# Altium footprint library motor21.PcbLib: 21 footprints (part 1 of 2)
Each footprint in its own frame and in the unit in brackets; x right, y up, seen from the top. Pads: shape width x height; smd on the part's side, far side on the other; paste and mask are expansions set on the pad; w line width, h text height; cw(c..) or ccw(c..) is an arc to the next point about the centre after c.
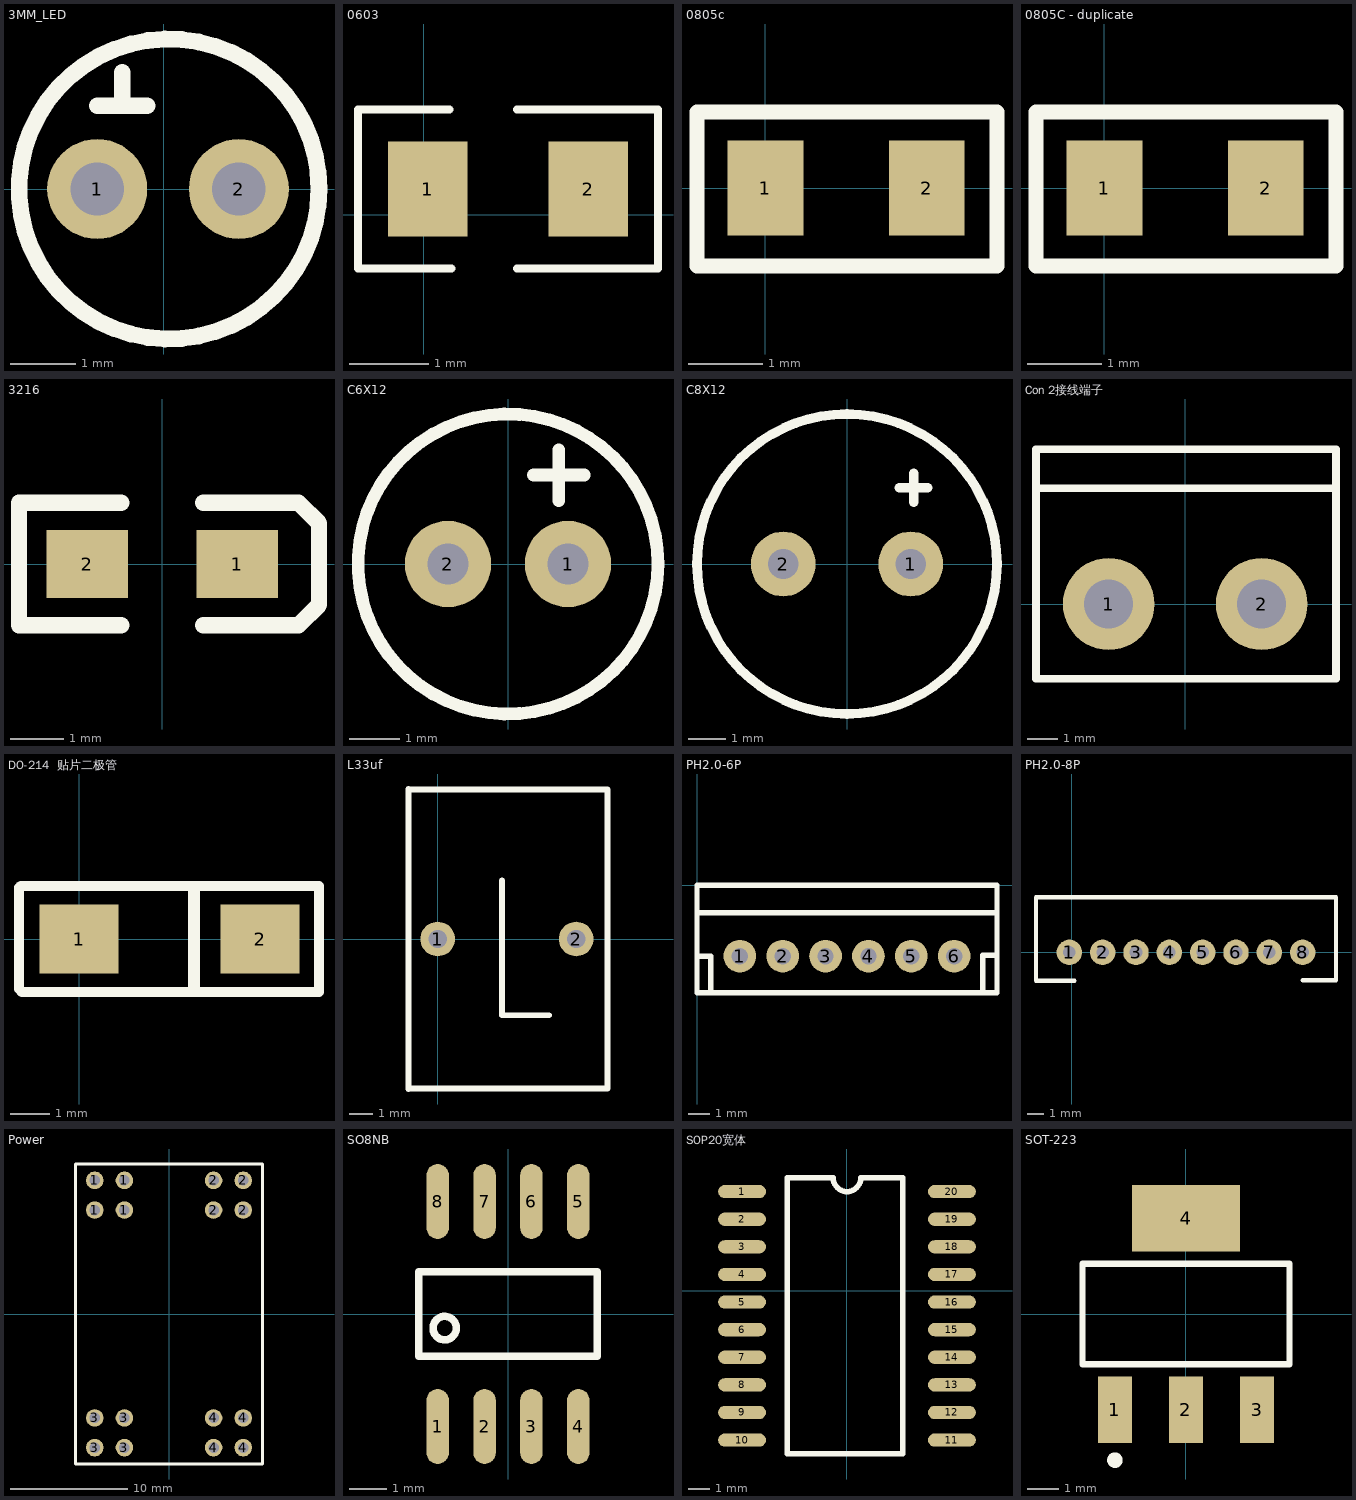
[diagram p0: the footprints below, top view; thin cyan lines are the x and y axes]

## 3MM_LED [mil]
pads (2):
  round 60 hole 32: 1(-40,0) 2(45,0)
Top Overlay:
  circle w10: c3.07,0 r90
  lines w10: -40,50 -10,50 ; -25,50 -25,70

## 0603 [mm]
pads (2):
  rect 1x1.2 smd: 1(0.05,0.325) 2(2.075,0.325)
Top Overlay:
  lines w0.1: 0.325,1.325 -0.825,1.325 -0.825,-0.675 0.35,-0.675 ; 1.175,-0.675 2.95,-0.675 2.95,1.325 1.175,1.325
3D body: height 0.45, standoff 0, extent -0.05,-0.075 1.55,0.725

## 0805c [mil]
height 39.37
pads (2):
  rect 40x50 smd: 1(0,0) 2(85,0)
Top Overlay:
  lines w8: -36,-41 122,-41 122,40 -36,40 -36,-41
3D body: height 30.39, standoff -0.39, extent 3.15,-24.61 81.89,24.61

## 0805C - duplicate [mil]
pads (2):
  rect 40x50 smd: 1(0,0) 2(85,0)
Top Overlay:
  lines w8: -36,-41 122,-41 122,40 -36,40 -36,-41
3D body: height 30.39, standoff -0.39, extent 3.15,-24.61 81.89,24.61

## 3216 [mil]
height 93.7
pads (2):
  rect 60x50 smd: 1(55,0) 2(-55,0)
Top Overlay:
  lines w12: -30,-45 -105,-45 -105,45 -30,45 ; 30,-45 100,-45 115,-30 115,30 100,45 30,45
3D body: height 62.99, standoff 0, extent -62.98,-31.5 63,31.5

## C6X12 [mil]
pads (2):
  round 68 hole 32: 1(47.24,0) 2(-47.24,0)
Top Overlay:
  circle w10: c0,0 r118.11
  lines w10: 20,70 60,70 ; 40,50 40,90

## C8X12 [mil]
pads (2):
  round 68 hole 32: 1(66.93,0) 2(-66.93,0)
Top Overlay:
  circle w10: c0,0 r157.48
  lines w10: 55,80 85,80 ; 70,65 70,95

## Con 2接线端子 [mm]
pads (2):
  round 3 hole 1.6: 1(-2.5,0) 2(2.5,0)
Top Overlay:
  lines w0.254: -4.877,3.785 4.902,3.785 4.928,3.81 ; -4.877,-2.438 4.928,-2.438 4.928,5.055 -4.877,5.055 -4.877,-2.438

## DO-214  贴片二极管 [mm]
height 2.7
pads (2):
  rect 2x1.75 smd: 1(0,0) 2(4.6,0)
Top Overlay:
  lines w0.254: -1.524,-1.27 -1.444,-1.35 -0.4,-1.35 6.096,-1.35 6.096,1.35 -0.4,1.35 -1.477,1.35 -1.524,1.303 -1.524,-1.27
  lines w0.3: 2.92,-1.3 2.92,1.3
3D body: height 2.12, standoff -0.02, extent -0.198,-1.342 4.908,1.325

## L33uf [mm]
pads (2):
  round 1.5 hole 0.8: 1(0,0) 2(6,0)
Top Overlay:
  lines w0.254: -1.27,-6.5 -1.27,6.5 ; -1.27,-6.477 7.366,-6.477 7.366,6.477 -1.27,6.477 ; 2.794,2.54 2.794,-3.302 4.826,-3.302

## PH2.0-6P [mil]
height 93.7
pads (6):
  round 60 hole 30: 1(78.74,-129.92) 2(157.48,-129.92) 3(236.22,-129.92) 4(314.96,-129.92) 5(393.7,-129.92) 6(472.44,-129.92)
Top Overlay:
  lines w10: 0,-130 25,-130 25,-196.85 ; 0,-50 551.18,-50 ; 525,-195 525,-128.07 549.25,-128.07 ; 550,-196.85 551.18,-195.67 551.18,0 0,0 0,-196.85 551.18,-196.85

## PH2.0-8P [mil]
height 93.7
pads (8):
  round 60 hole 30: 1(-6.26,0.08) 2(72.48,0.08) 3(151.22,0.08) 4(229.96,0.08) 5(308.7,0.08) 6(387.44,0.08) 7(466.18,0.08) 8(544.92,0.08)
Top Overlay:
  lines w10: 6.26,-66.85 -85,-66.85 -85,130 623.66,130 623.66,-65.67 544.92,-65.67

## Power [mm]
height 2.38
pads (16):
  round 1.5 hole 0.9: 1(-6.35,8.89) 1(-6.35,11.43) 1(-3.81,8.89) 1(-3.81,11.43) 2(3.81,8.89) 2(3.81,11.43) 2(6.35,8.89) 2(6.35,11.43) 3(-6.35,-11.43) 3(-6.35,-8.89) 3(-3.81,-11.43) 3(-3.81,-8.89) 4(3.81,-11.43) 4(3.81,-8.89) 4(6.35,-11.43) 4(6.35,-8.89)
Top Overlay:
  lines w0.254: -8,-12.827 -8,12.827 8,12.827 8,-12.827 -8,-12.827

## SO8NB [mil]
pads (8):
  oval 24x80 smd: 1(-75,-120) 2(-25,-120) 3(25,-120) 4(75,-120) 5(75,120) 6(25,120) 7(-25,120) 8(-75,120)
Top Overlay:
  circle w8: c-67.5,-15 r12.5
  lines w8: -95,-45 -95,45 95,45 95,-45 -95,-45
3D body: height 61.02, standoff -1.97, extent -96.91,-117.91 96,117.91

## SOP20宽体 [mm]
pads (20):
  oval 2.2x0.61 smd: 1(-4.825,4.563) 2(-4.825,3.293) 3(-4.825,2.023) 4(-4.825,0.753) 5(-4.825,-0.517) 6(-4.825,-1.787) 7(-4.825,-3.057) 8(-4.825,-4.327) 9(-4.825,-5.597) 10(-4.825,-6.867) 11(4.827,-6.867) 12(4.827,-5.597) 13(4.827,-4.327) 14(4.827,-3.057) 15(4.827,-1.787) 16(4.827,-0.517) 17(4.827,0.753) 18(4.827,2.023) 19(4.827,3.293) 20(4.827,4.563)
Top Overlay:
  lines w0.254: -2.743,-7.502 2.565,-7.502 2.565,5.198 0.636,5.198 cw(c0.001,5.198) -0.634,5.198 -2.743,5.198 -2.743,-7.502
3D body: height 2.65, standoff -0.05, extent -5.212,-7.502 5.134,5.198

## SOT-223 [mm] "SOT-223/SC-73; 4 Leads; Body 6.7 x 7.3 mm, inc. leads (LxW max)"
height 1.78
pads (4):
  rect 1.1x2.15 smd: 1(-2.3,-3.1) 2(0,-3.1) 3(2.3,-3.1)
  rect 3.5x2.15 smd: 4(0,3.1)
Top Overlay:
  circle w0.25: c-2.3,-4.725 r0.125
  lines w0.2: -3.35,-1.625 -3.35,1.625 3.35,1.625 3.35,-1.625 -3.35,-1.625
3D body: height 1.65, standoff -0.03, extent -3.251,-3.58 3.249,3.38